# Altium integrated library 830016178.IntLib: 1 symbol
Pins are listed as number, name and electrical type; pins without a type are passive.

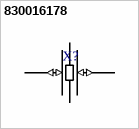
[diagram p0: symbol 830016178]

## 830016178
designator X?
footprint 830016178
pins: 1 (io), 2 (power), 3 (power), 4 (io)